# EAGLE library part PCA9306DCUT (library DAWA-MAIN-7.0)
VOLTAGE-LEVEL TRANSLATOR
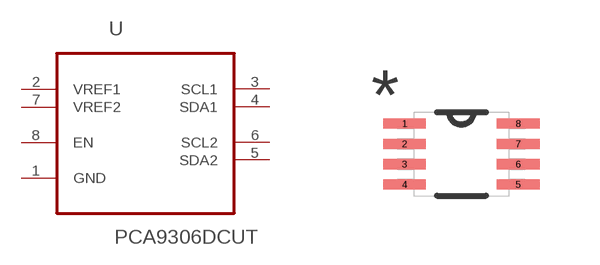
[diagram p11: symbol with the pads of SOP50P310X90-8N; footprint SOP50P310X90-8N]

Designator prefix U

## PCA9306DCUT (MPN: PCA9306DCUT)  [SOP50P310X90-8N]
1  GND  pas
2  VREF1  pwr
3  SCL1
4  SDA1
5  SDA2
6  SCL2
7  VREF2  pwr
8  EN  in

## Footprint SOP50P310X90-8N (pad centres in mm)
smd 1.067 x 0.254: 1 -1.422,0.762; 2 -1.422,0.254; 3 -1.422,-0.254; 4 -1.422,-0.762; 5 1.422,-0.762; 6 1.422,-0.254; 7 1.422,0.254; 8 1.422,0.762